# Altium schematic symbol library Schlib.SchLib: 7 symbols
Pins are listed as number, name and electrical type; pins without a type are passive.

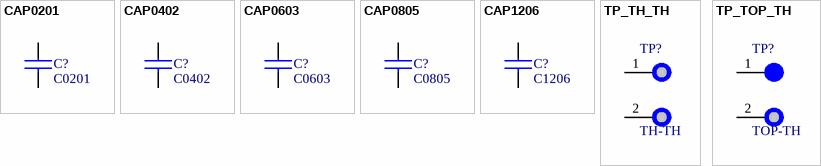
[diagram p0: symbols CAP0201 to TP_TOP_TH]

## CAP0201
designator C?, comment C0201
footprint C0201 (Creator MM)
pins: 1, 2

## CAP0402
designator C?, comment C0402
footprint C0402
pins: 1, 2

## CAP0603
designator C?, comment C0603
footprint C0603
pins: 1, 2

## CAP0805
designator C?, comment C0805
footprint C0805
pins: 1, 2

## CAP1206
designator C?, comment C1206
footprint C1206
pins: 1, 2

## TP_TH_TH
designator TP?, comment TH-TH
Testpoints TH - TH 1mm/0.3mm
footprint TP_TH_TH
pins: 1, 2

## TP_TOP_TH
designator TP?, comment TOP-TH
Testpoints TOP - TH 1mm/0.3mm
footprint TP_TOP_TH
pins: 1, 2